# Altium footprint library SOT23-5.PcbLib: 1 footprints
Each footprint in its own frame and in the unit in brackets; x right, y up, seen from the top. Pads: shape width x height; smd on the part's side, far side on the other; paste and mask are expansions set on the pad; w line width, h text height; cw(c..) or ccw(c..) is an arc to the next point about the centre after c.
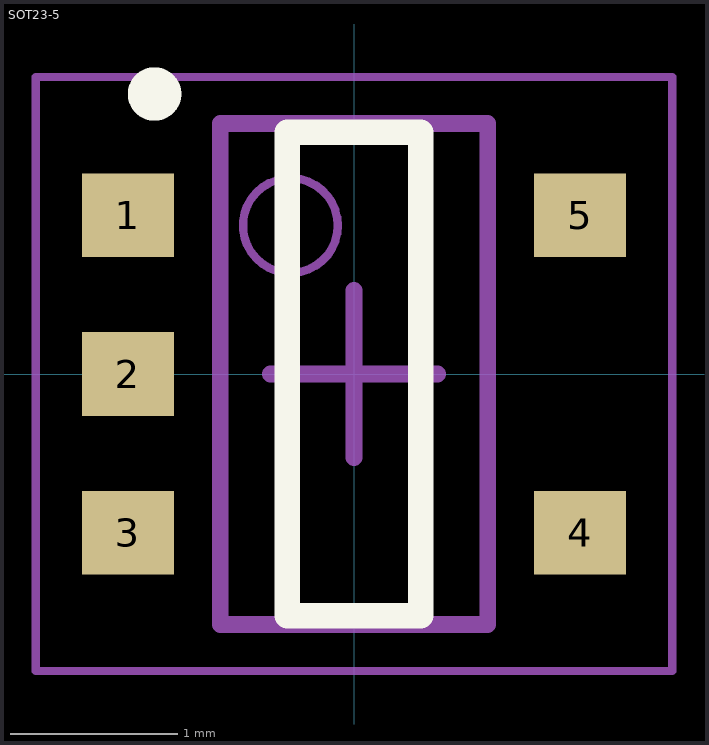
[diagram p0: the footprint, top view; thin cyan lines are the x and y axes]

## SOT23-5 [mm] "SOT23, 5-Leads, Body 2.90x2.80mm, Pitch 0.95mm, IPC High Density"
height 1.1
pads (5):
  rect 0.55x0.5 smd: 1(-1.354,0.95) 2(-1.354,0) 3(-1.354,-0.95) 4(1.354,-0.95) 5(1.354,0.95)
Top Overlay:
  circle w0.2: c-1.194,1.676 r0.06
  lines w0.152: -0.4,-1.448 0.4,-1.448 0.4,1.448 -0.4,1.448 -0.4,-1.448
Mechanical 13:
  circle w0.05: c-0.381,0.889 r0.284
  lines w0.1: -0.8,-1.5 -0.8,1.5 0.8,1.5 0.8,-1.5 -0.8,-1.5
Mechanical 15:
  lines w0.05: -1.905,-1.778 -1.905,1.778 1.905,1.778 1.905,-1.778 -1.905,-1.778
  lines w0.1: -0.5,0 0.5,0 ; 0,-0.5 0,0.5
3D body: height 1.2, standoff 0, extent -1.4,-1.45 1.4,1.45